# Altium footprint library PcbLibrary.PcbLib: 1 footprints
Each footprint in its own frame and in the unit in brackets; x right, y up, seen from the top. Pads: shape width x height; smd on the part's side, far side on the other; paste and mask are expansions set on the pad; w line width, h text height; cw(c..) or ccw(c..) is an arc to the next point about the centre after c.
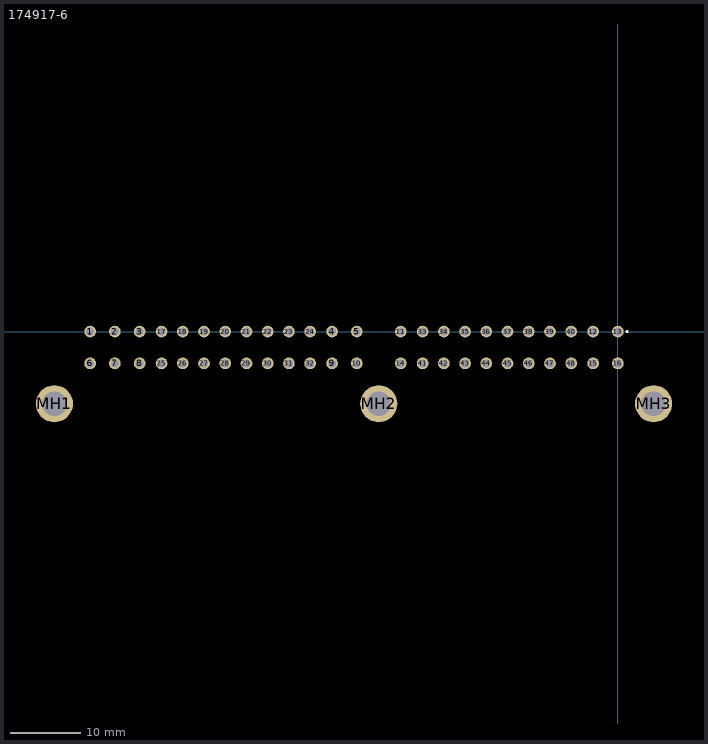
[diagram p0: the footprint, top view; thin cyan lines are the x and y axes]

## 174917-6 [mm]
pads (51):
  round 1.65 hole 1.1 paste-2539.97 mask+0.051: 1(-74.6,0) 2(-71.1,0) 3(-67.6,0) 4(-40.4,0) 5(-36.9,0) 6(-74.6,-4.5) 7(-71.1,-4.5) 8(-67.6,-4.5) 9(-40.4,-4.5) 10(-36.9,-4.5) 11(-30.7,0) 12(-3.5,0) 13(0,0) 14(-30.7,-4.5) 15(-3.5,-4.5) 16(0,-4.5) 17(-64.5,0) 18(-61.5,0) 19(-58.5,0) 20(-55.5,0) 21(-52.5,0) 22(-49.5,0) 23(-46.5,0) 24(-43.5,0) 25(-64.5,-4.5) 26(-61.5,-4.5) 27(-58.5,-4.5) 28(-55.5,-4.5) 29(-52.5,-4.5) 30(-49.5,-4.5) 31(-46.5,-4.5) 32(-43.5,-4.5) 33(-27.6,0) 34(-24.6,0) 35(-21.6,0) 36(-18.6,0) 37(-15.6,0) 38(-12.6,0) 39(-9.6,0) 40(-6.6,0) 41(-27.6,-4.5) 42(-24.6,-4.5) 43(-21.6,-4.5) 44(-18.6,-4.5) 45(-15.6,-4.5) 46(-12.6,-4.5) 47(-9.6,-4.5) 48(-6.6,-4.5)
  round 5.25 hole 3.5 paste-2539.97 mask+0.051: MH1(-79.65,-10.2) MH2(-33.8,-10.2) MH3(5.05,-10.2)
Top Overlay:
  lines w0.2: 1.3,-0.1 ccw(c1.3,0) 1.3,0.1 ccw(c1.3,0) 1.3,-0.1
3D body "c-0174917-06-m-3d.step": height 21.9, standoff -4, extent -82.9,-25.5 8.25,0.32